# EAGLE library part TW-11-03-X-D (library Traficon)
SAMTEC TW-10-03-X-D
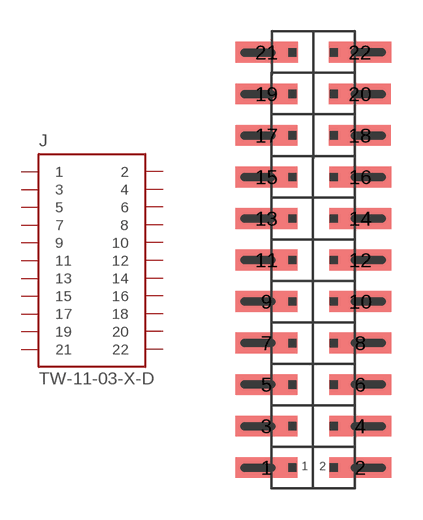
[diagram p174: symbol with the pads of 2MMHEAD2X11; footprint 2MMHEAD2X11]

Designator prefix J

## TW-11-03-X-D  [2MMHEAD2X11]
1  1  pas
2  2  pas
3  3  pas
4  4  pas
5  5  pas
6  6  pas
7  7  pas
8  8  pas
9  9  pas
10  10  pas
11  11  pas
12  12  pas
13  13  pas
14  14  pas
15  15  pas
16  16  pas
17  17
18  18
19  19
20  20
21  21
22  22

## Footprint 2MMHEAD2X11 (pad centres in mm)
smd 3 x 1: 1 -2.255,-10.002; 2 2.265,-10.002; 3 -2.255,-8.002; 4 2.265,-8.002; 5 -2.255,-6.002; 6 2.265,-6.002; 7 -2.255,-4.002; 8 2.265,-4.002; 9 -2.255,-2.002; 10 2.265,-2.002; 11 -2.255,-0.002; 12 2.265,-0.002; 13 -2.255,1.998; 14 2.265,1.998; 15 -2.255,3.998; 16 2.265,3.998; 17 -2.255,5.998; 18 2.245,5.998; 19 -2.255,7.998; 20 2.245,7.998; 21 -2.253,10.004; 22 2.247,10.004